# Altium footprint library ReboostV21.PcbLib: 40 footprints (part 2 of 3)
Each footprint in its own frame and in the unit in brackets; x right, y up, seen from the top. Pads: shape width x height; smd on the part's side, far side on the other; paste and mask are expansions set on the pad; w line width, h text height; cw(c..) or ccw(c..) is an arc to the next point about the centre after c.
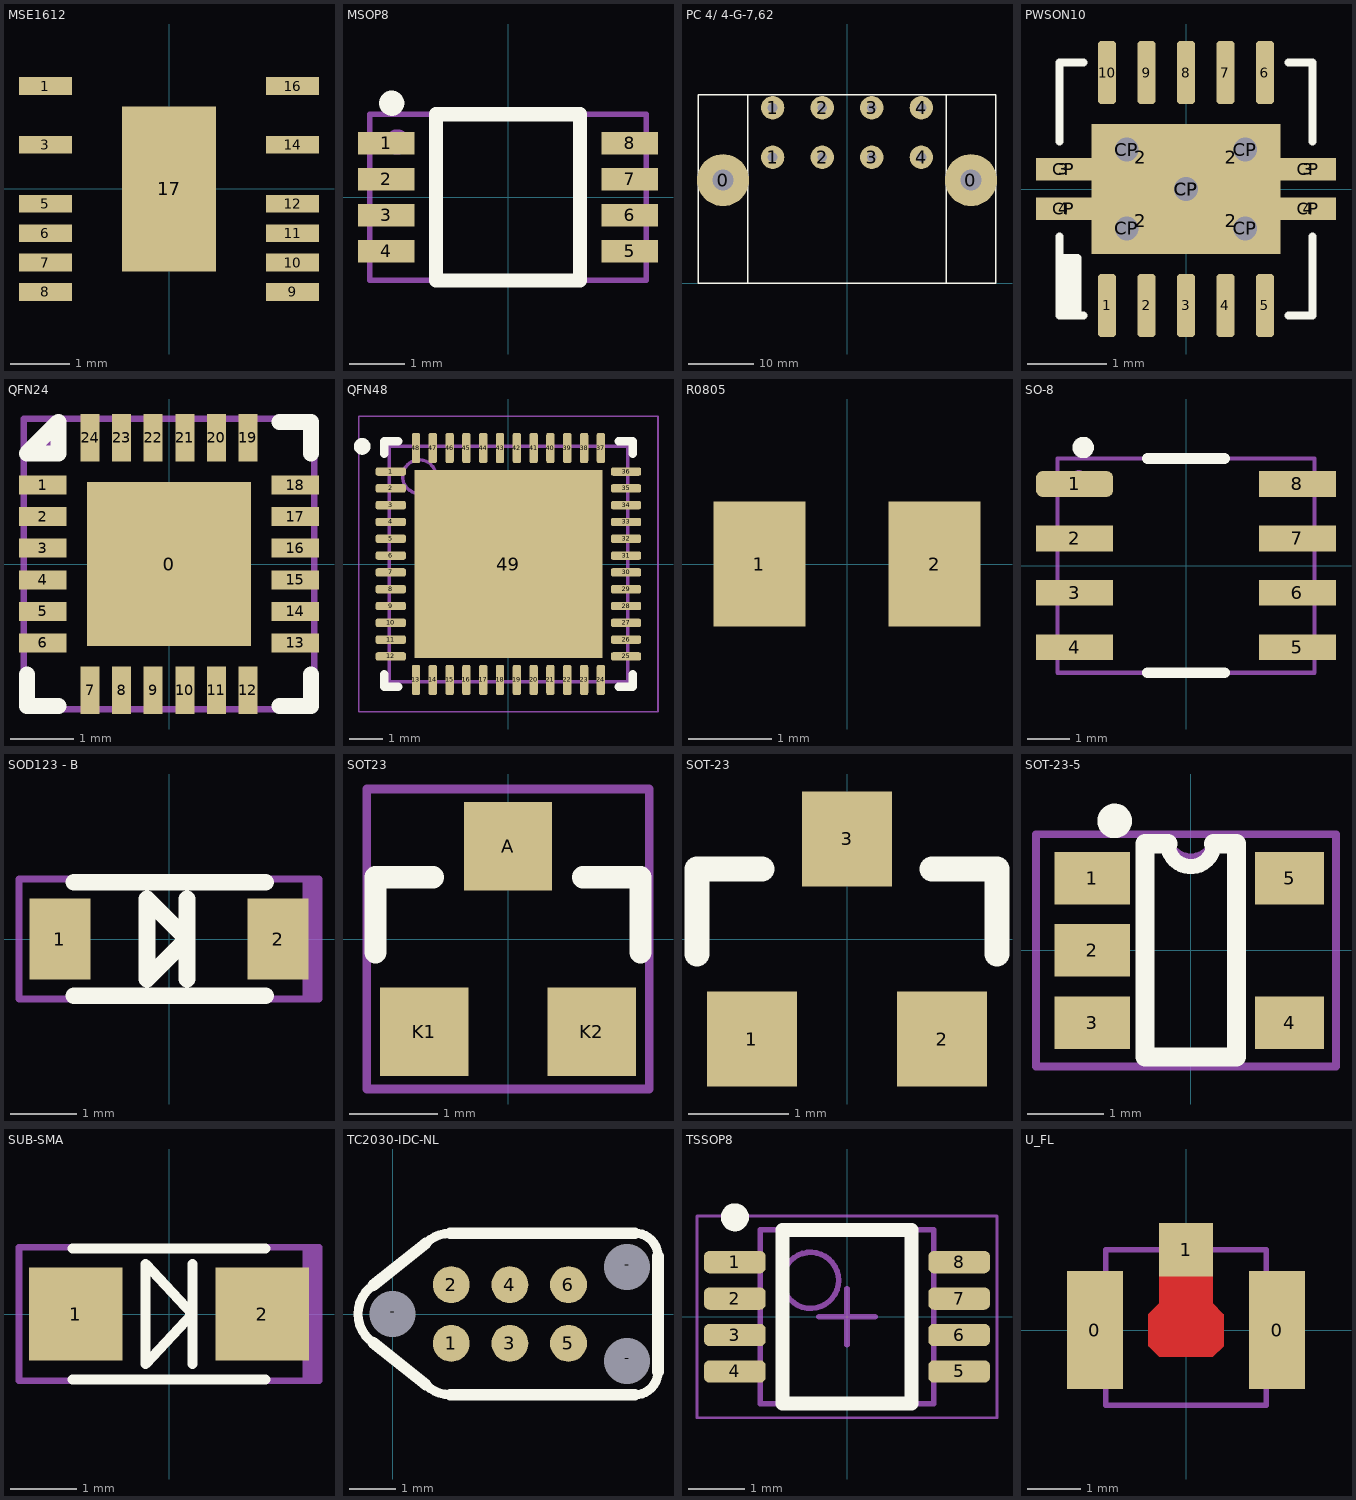
[diagram p1: the footprints below, top view; thin cyan lines are the x and y axes]

## MSE1612 [mm]
pads (13):
  rect 0.9x0.3 smd: 1(-2.1,1.75) 3(-2.1,0.75) 5(-2.1,-0.25) 6(-2.1,-0.75) 7(-2.1,-1.25) 8(-2.1,-1.75) 9(2.1,-1.75) 10(2.1,-1.25) 11(2.1,-0.75) 12(2.1,-0.25) 14(2.1,0.75) 16(2.1,1.75)
  rect 1.6x2.8 smd: 17(0,0)
3D body: height 1.1, standoff 0.25, extent -1.5,-2 1.5,2

## MSOP8 [mm]
pads (8):
  rect 1.02x0.41 smd: 1(-2.2,0.975) 2(-2.2,0.325) 3(-2.2,-0.325) 4(-2.2,-0.975) 5(2.2,-0.975) 6(2.2,-0.325) 7(2.2,0.325) 8(2.2,0.975)
Top Overlay:
  circle w0.254: c-2.1,1.7 r0.1
  lines w0.254: -1.3,-1.5 1.3,-1.5 1.3,1.5 -1.3,1.5 -1.3,-1.5
Mechanical 29:
  circle w0.254: c-2,1 r0.1
  lines w0.1: -2.5,-1.5 -2.5,1.5 2.5,1.5 2.5,-1.5 -2.5,-1.5
  text ".Designator" at -2.25,-0.25 h0.8
3D body "User Library-msop-8.step": height 1.15, standoff 0, extent -2.45,-1.5 2.45,1.5

## PC 4/ 4-G-7,62 [mm]
pads (10):
  round 8 hole 3.2: 0(-19.05,15.86) 0(19.05,15.86)
  round 3.6 hole 1.5: 1(-11.43,19.38) 1(-11.43,27) 2(-3.81,19.38) 2(-3.81,27) 3(3.81,19.38) 3(3.81,27) 4(11.43,19.38) 4(11.43,27)
Top Overlay:
  lines w0.25: -15.23,0 -15.23,29 ; 15.23,0 15.23,29 ; -22.83,0 -22.83,29 22.83,29 22.83,0 -22.83,0
3D body "1827570.stp": height 12.41, standoff 0.11, extent -22.84,0.13 -14,29.03
3D body "1827570.stp": height 12.39, standoff 0.09, extent 14,0.13 22.84,29.03
3D body "1804810.stp": height 14.25, standoff -5, extent -15.22,0.03 15.24,29.03

## PWSON10 [mm]
pads (28):
  rrect40% 0.23x0.8 smd: 1(-1,-1.475) 2(-0.5,-1.475) 3(0,-1.475) 4(0.5,-1.475) 5(1,-1.475) 6(1,1.475) 7(0.5,1.475) 8(0,1.475) 9(-0.5,1.475) 10(-1,1.475)
  rrect50% 1.05x0.68 on Top Paste: 2(-0.575,-0.4) 2(-0.575,0.4) 2(0.575,-0.4) 2(0.575,0.4)
  rrect50% 0.5x0.26 on Top Paste: 3(-1.55,0.25) 3(1.55,0.25) 4(-1.55,-0.25) 4(1.55,-0.25)
  rect 0.7x0.28 smd paste-2: CP(-1.55,-0.25) CP(-1.55,0.25) CP(1.55,-0.25) CP(1.55,0.25)
  round 0.65 hole 0.3 mask+0.102: CP(-0.75,-0.5) CP(-0.75,0.5) CP(0,0) CP(0.75,-0.5) CP(0.75,0.5)
  rect 2.4x1.65 smd paste-2: CP(0,0)
Top Overlay:
  lines w0.1: -1.6,-0.875 -1.375,-0.875 -1.375,-1.6 -1.45,-1.6 -1.45,-0.875 -1.525,-0.875 -1.525,-1.6 ; -1.6,-0.6 -1.6,-1.6 -1.3,-1.6 ; -1.6,0.6 -1.6,1.6 -1.3,1.6 ; 1.3,-1.6 1.6,-1.6 1.6,-0.6 ; 1.3,1.6 1.6,1.6 1.6,0.6
3D body: height 0.6, standoff 0, extent -1.6,-1.6 1.6,1.6

## QFN24 [mm]
pads (25):
  rect 2.6x2.6 smd paste-10: 0(0,0)
  rect 0.75x0.3 smd: 1(-2,1.25) 2(-2,0.75) 3(-2,0.25) 4(-2,-0.25) 5(-2,-0.75) 6(-2,-1.25) 13(2,-1.25) 14(2,-0.75) 15(2,-0.25) 16(2,0.25) 17(2,0.75) 18(2,1.25)
  rect 0.3x0.75 smd: 7(-1.25,-2) 8(-0.75,-2) 9(-0.25,-2) 10(0.25,-2) 11(0.75,-2) 12(1.25,-2) 19(1.25,2) 20(0.75,2) 21(0.25,2) 22(-0.25,2) 23(-0.75,2) 24(-1.25,2)
Top Overlay:
  lines w0.254: -2.25,-1.75 -2.25,-2.25 -1.75,-2.25 ; 1.75,-2.25 2.25,-2.25 2.25,-1.75 ; 1.75,2.25 2.25,2.25 2.25,1.75 ; -2.25,1.75 -1.75,2.25 -1.75,1.75 -2.25,1.75
Top Paste:
  rectangle: -1,-1 1,1
Mechanical 29:
  circle w0.254: c-1.9,1.9 r0.1
  lines w0.1: -2.3,-2.3 -2.3,2.3 2.3,2.3 2.3,-2.3 -2.3,-2.3
  text ".Designator" at -1.9,-0.3 h0.8
3D body "QFN24(4X4).STEP": height 0.9, standoff 0, extent -2.01,-2.01 2.01,2.01

## QFN48 [mm]
pads (49):
  rrect50% 0.9x0.25 smd: 1(-3.5,2.75) 2(-3.5,2.25) 3(-3.5,1.75) 4(-3.5,1.25) 5(-3.5,0.75) 6(-3.5,0.25) 7(-3.5,-0.25) 8(-3.5,-0.75) 9(-3.5,-1.25) 10(-3.5,-1.75) 11(-3.5,-2.25) 12(-3.5,-2.75) 25(3.5,-2.75) 26(3.5,-2.25) 27(3.5,-1.75) 28(3.5,-1.25) 29(3.5,-0.75) 30(3.5,-0.25) 31(3.5,0.25) 32(3.5,0.75) 33(3.5,1.25) 34(3.5,1.75) 35(3.5,2.25) 36(3.5,2.75)
  rrect50% 0.25x0.9 smd: 13(-2.75,-3.45) 14(-2.25,-3.45) 15(-1.75,-3.45) 16(-1.25,-3.45) 17(-0.75,-3.45) 18(-0.25,-3.45) 19(0.25,-3.45) 20(0.75,-3.45) 21(1.25,-3.45) 22(1.75,-3.45) 23(2.25,-3.45) 24(2.75,-3.45) 37(2.75,3.45) 38(2.25,3.45) 39(1.75,3.45) 40(1.25,3.45) 41(0.75,3.45) 42(0.25,3.45) 43(-0.25,3.45) 44(-0.75,3.45) 45(-1.25,3.45) 46(-1.75,3.45) 47(-2.25,3.45) 48(-2.75,3.45)
  rect 5.6x5.6 smd: 49(0,0)
Top Overlay:
  circle w0.25: c-4.35,3.5 r0.125
  lines w0.25: -3.7,-3.275 -3.7,-3.65 -3.275,-3.65 ; -3.7,3.275 -3.7,3.65 -3.275,3.65 ; 3.275,-3.65 3.7,-3.65 3.7,-3.275 ; 3.275,3.65 3.7,3.65 3.7,3.275
Mechanical 13:
  circle w0.1: c-2.65,2.6 r0.5
  lines w0.1: -3.55,-3.5 3.55,-3.5 3.55,3.5 -3.55,3.5 -3.55,-3.5
Mechanical 15:
  lines w0.05: -4.45,-4.4 4.45,-4.4 4.45,4.4 -4.45,4.4 -4.45,-4.4
  lines w0.1: -0.5,0 0.5,0 ; 0,-0.5 0,0.5
3D body: height 0.55, standoff 0.02, extent -3.55,-3.5 3.55,3.5

## R0805 [mm]
pads (2):
  rect 1.1x1.5 smd: 1(-1.05,0) 2(1.05,0)
3D body: height 0.56, standoff 0.55, extent -0.25,-0.35 0.24,0.34
3D body: height 0.55, standoff 0.05, extent -1,-0.63 1,0.63
3D body: height 0.6, standoff 0, extent 0.61,-0.64 1.01,0.64
3D body: height 0.6, standoff 0, extent -1.01,-0.64 -0.61,0.64

## SO-8 [mm]
pads (8):
  rrect50% 1.8x0.6 smd: 1(-2.6,1.905)
  rect 1.8x0.6 smd: 2(-2.6,0.635) 3(-2.6,-0.635) 4(-2.6,-1.905) 5(2.6,-1.905) 6(2.6,-0.635) 7(2.6,0.635) 8(2.6,1.905)
Top Overlay:
  circle w0.25: c-2.4,2.755 r0.125
  lines w0.25: -0.9,-2.5 0.9,-2.5 ; -0.9,2.5 0.9,2.5
Mechanical 29:
  circle w0.254: c-2.5,2 r0.1
  lines w0.1: -3,-2.5 -3,2.5 3,2.5 3,-2.5 -3,-2.5
  text ".Designator" at -2.5,-0.5 h0.8
3D body "SW3dPS-so8.STEP": height 1.68, standoff 0, extent -3.023,-2.45 3.023,2.45

## SOD123 - B [mm]
pads (2):
  rect 0.91x1.22 smd: 1(-1.635,0) 2(1.635,0)
Top Overlay:
  lines w0.25: -1.43,-0.85 1.45,-0.85 ; -1.43,0.85 1.45,0.85 ; 0.27,-0.6 0.27,0.6 ; -0.33,-0.6 0.27,0 -0.33,0.6 -0.33,-0.6
Mechanical 29:
  lines w0.1: 2.05,0.9 2.05,-0.9 2.15,-0.9 2.15,0.9 ; -2.25,-0.9 2.25,-0.9 2.25,0.9 -2.25,0.9 -2.25,0 -2.25,-0.9
  text ".designator" at -2.1,-0.65 h1.3
3D body: height 1.01, standoff 1, extent 0.75,-0.8 1.1,0.8
3D body: height 1, standoff 0.1, extent -1.43,-0.85 1.45,0.85

## SOT23 [mm]
pads (3):
  rect 1x1 smd: A(0,1.05) K1(-0.95,-1.05) K2(0.95,-1.05)
Top Overlay:
  lines w0.25: -1.5,-0.15 -1.5,0.7 -0.85,0.7 ; 0.85,0.7 1.5,0.7 1.5,-0.15
Mechanical 29:
  lines w0.1: -1.6,-1.7 -1.6,1.7 1.6,1.7 1.6,-1.7 -1.6,-1.7
  text ".designator" at -1.5,-0.35 h1
3D body "User Library-SOT23-2.step": height 1.08, standoff 0, extent -1.5,-1.29 1.5,1.35

## SOT-23 [mm]
pads (3):
  rect 0.9x0.95 smd: 1(-0.95,-1) 2(0.95,-1) 3(0,1)
Top Overlay:
  lines w0.25: -1.5,-0.15 -1.5,0.7 -0.85,0.7 ; 0.85,0.7 1.5,0.7 1.5,-0.15
3D body "User Library-SOT23-2.step": height 1.08, standoff 0, extent -1.5,-1.32 1.5,1.32

## SOT-23-5 [mm]
pads (5):
  rect 0.99x0.69 smd: 1(-1.295,0.95) 2(-1.295,0) 3(-1.295,-0.95)
  rect 0.9x0.69 smd: 4(1.295,-0.95) 5(1.295,0.95)
Top Overlay:
  circle w0.254: c-1,1.7 r0.1
  lines w0.2: -0.3,1.4 ccw(c0,1.4) 0.3,1.4
  lines w0.25: -0.3,1.4 -0.6,1.4 -0.6,-1.4 0.6,-1.4 0.6,1.4 0.3,1.4
Mechanical 29:
  lines w0.1: -0.3,1.524 ccw(c0,1.524) 0.3,1.524 ; -2.032,-1.524 1.905,-1.524 1.905,1.524 -1.905,1.524 -2.032,1.524 -2.032,-1.524
  text ".designator" at -1.778,-0.508 h1.3
3D body "User Library-SOT23-5-2.step": height 1.45, standoff 0, extent -1.4,-1.45 1.4,1.45

## SUB-SMA [mm]
pads (2):
  rect 1.4x1.4 smd: 1(-1.4,0) 2(1.4,0)
Top Overlay:
  lines w0.15: -1.45,-0.98 1.45,-0.98 ; -1.45,0.98 1.45,0.98 ; 0.35,-0.75 0.35,0.75 ; -0.35,-0.75 0.35,0 -0.35,0.75 -0.35,-0.75
Mechanical 29:
  lines w0.1: 2.1,-1 2.1,1 2.05,1 2.05,-1 2.15,-1 2.15,1 ; -2.25,-1 -2.25,1 2.25,1 2.25,-1 -2.25,-1
  text ".designator" at -2.15,-0.45 h1
3D body: height 1.43, standoff 0.1, extent -1.45,-0.95 1.45,0.95
3D body: height 1.5, standoff 1.43, extent 0.76,-0.85 1.11,0.85

## TC2030-IDC-NL [mm]
pads (9):
  round 0.8 smd paste-1: 1(1.27,-0.635) 2(1.27,0.635) 3(2.54,-0.635) 4(2.54,0.635) 5(3.81,-0.635) 6(3.81,0.635)
  oval 0.8x0.4 hole 1 unplated: -(0,0) -(5.08,-1.016) -(5.08,1.016)
Top Overlay:
  lines w0.2: -0.416,-0.624 cw(c0,0) -0.75,0 cw(c0,0) -0.416,0.624 ; 0.72,-1.53 ccw(c1.25,-1) 1.25,-1.75 ; 0.72,1.53 cw(c1.25,1) 1.25,1.75 ; 5.25,-1.75 ccw(c5.25,-1.25) 5.75,-1.25 ; 5.25,1.75 cw(c5.25,1.25) 5.75,1.25
  lines w0.25: -0.416,-0.624 0.72,-1.53 ; -0.416,0.624 0.72,1.53 ; 1.25,-1.75 2.5,-1.75 5.25,-1.75 ; 1.25,1.75 2.5,1.75 5.25,1.75 ; 5.75,-1.25 5.75,0 5.75,1.25

## TSSOP8 [mm]
pads (8):
  rrect50% 1.1x0.4 smd: 1(-2,0.975) 2(-2,0.325) 3(-2,-0.325) 4(-2,-0.975) 5(2,-0.975) 6(2,-0.325) 7(2,0.325) 8(2,0.975)
Top Overlay:
  circle w0.25: c-2,1.775 r0.125
  lines w0.25: -1.15,-1.55 -1.15,1.55 1.15,1.55 1.15,-1.55 -1.15,-1.55
Mechanical 13:
  circle w0.1: c-0.65,0.65 r0.5
  lines w0.1: -1.55,-1.55 -1.55,1.55 1.55,1.55 1.55,-1.55 -1.55,-1.55
Mechanical 15:
  lines w0.05: -2.675,-1.8 -2.675,1.8 2.675,1.8 2.675,-1.8 -2.675,-1.8
  lines w0.1: -0.5,0 0.5,0 ; 0,-0.5 0,0.5
3D body: height 1.1, standoff 0.15, extent -1.55,-1.55 1.55,1.55

## U_FL [mm]
pads (3):
  rect 1.05x2.2 smd: 0(-1.7,0) 0(1.7,0)
  rect 1x1 smd: 1(0,1.5)
Top Layer:
  pour cut-out: -0.5,1 -0.5,0.5 -0.7,0.3 -0.7,-0.3 -0.5,-0.5 0.5,-0.5 0.7,-0.3 0.7,0.3 0.5,0.5 0.5,1
Mechanical 29:
  lines w0.1: -1.5,-1.4 1.5,-1.4 1.5,1.5 -1.5,1.5 -1.5,-1.4
  text ".Designator" at -1.3,-0.4 h0.8
3D body "User Library-CL331-0471-0-01.step": height 1.36, standoff 0.01, extent -1.45,-1.4 1.45,1.5